# Altium footprint library MCB.PcbLib: 31 footprints (part 2 of 2)
Each footprint in its own frame and in the unit in brackets; x right, y up, seen from the top. Pads: shape width x height; smd on the part's side, far side on the other; paste and mask are expansions set on the pad; w line width, h text height; cw(c..) or ccw(c..) is an arc to the next point about the centre after c.
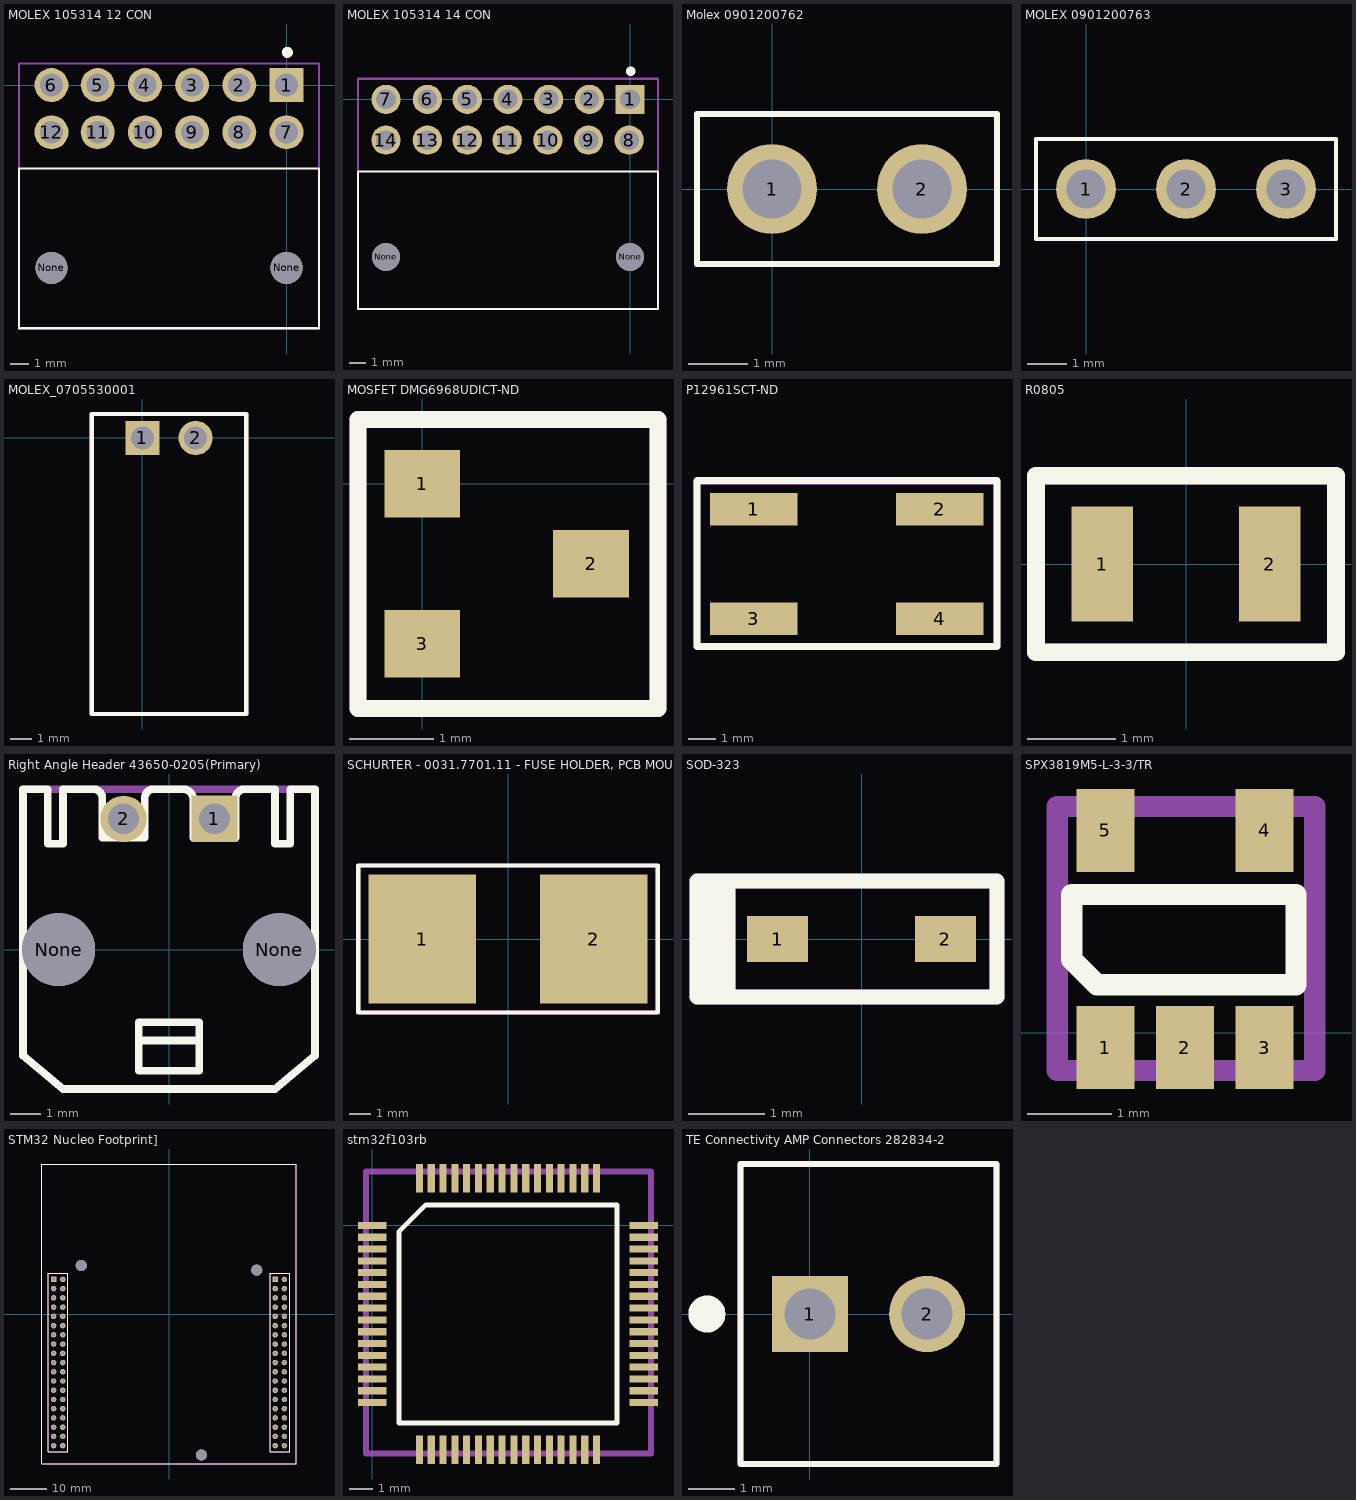
[diagram p1: the footprints below, top view; thin cyan lines are the x and y axes]

## MOLEX 105314 12 CON [mm]
pads (14):
  rect 1.8x1.8 hole 1.2: 1(0,0)
  round 1.8 hole 1.2: 2(-2.5,0) 3(-5,0) 4(-7.5,0) 5(-10,0) 6(-12.45,0) 7(0,-2.5) 8(-2.5,-2.5) 9(-5,-2.5) 10(-7.5,-2.5) 11(-10,-2.5) 12(-12.45,-2.5)
  round 1.7 hole 1.7 unplated: None(-12.45,-9.68) None(0,-9.68)
Top Overlay:
  circle w0.3: c0.047,1.73 r0.14
  lines w0.127: -14.17,-12.88 -14.17,-4.42 1.72,-4.42 1.72,-12.88 -14.17,-12.88
Mechanical 5:
  lines w0.127: -14.17,-12.878 1.72,-12.878 1.72,1.143 -14.17,1.143 -14.17,-12.878
  text "'.Designator'" at -8.636,-8.89 h0.71
3D body "MOLEX 105314 11 12 CON.stp": height 9.15, standoff -3.19, extent -14.193,-14.314 1.747,0.344

## MOLEX 105314 14 CON [mm]
pads (16):
  rect 1.8x1.8 hole 1.2: 1(0,0)
  round 1.8 hole 1.2: 2(-2.5,0) 3(-5,0) 4(-7.5,0) 5(-10,0) 6(-12.45,0) 7(-14.992,0) 8(-0.05,-2.5) 9(-2.55,-2.5) 10(-5.05,-2.5) 11(-7.55,-2.5) 12(-10,-2.5) 13(-12.45,-2.5) 14(-14.992,-2.5)
  round 1.7 hole 1.7 unplated: None(-14.992,-9.68) None(0,-9.68)
Top Overlay:
  circle w0.3: c0.047,1.73 r0.14
  lines w0.127: -16.712,-12.88 -16.712,-4.42 -15.494,-4.42 1.72,-4.42 1.72,-12.88 -16.712,-12.88
Mechanical 5:
  lines w0.127: -16.712,-12.878 1.72,-12.878 1.72,1.27 -9.804,1.27 -16.712,1.27 -16.712,-12.878
  text "'.Designator'" at -11.303,-8.763 h0.71
3D body "MOLEX 105314 11 14 CON.stp": height 9.15, standoff -3.19, extent -16.713,-14.314 1.727,0.344

## Molex 0901200762 [mil]
pads (2):
  round 60 hole 39.37: 1(0,0) 2(100,0)
Top Overlay:
  lines w3.94: 45,50 150,50 150,-50 -50,-50 -50,50 50,50
Mechanical 5:
  lines w3.94: 45,50 150,50 150,-50 -50,-50 -50,50 50,50
  text "'.Designator'" at -39,-10 h19.68
3D body "Molex 901200762.stp": height 364.67, standoff -112.37, extent -50,-49.21 150,49.21

## MOLEX 0901200763 [mil]
pads (3):
  round 60 hole 39.37: 1(0,0) 2(100,0) 3(200,0)
Top Overlay:
  lines w3.94: 45,50 250,50 250,-50 -50,-50 -50,50 50,50
Mechanical 5:
  lines w3.94: 45,50 250,50 250,-50 -50,-50 -50,50 50,50
  text "'.Designator'" at -35,-10 h28
3D body "901200763.stp": height 364.67, standoff -112.38, extent -50,-49.21 250,49.21

## MOLEX_0705530001 [mm]
pads (2):
  rect 1.635x1.635 hole 1.09: 1(0,0)
  round 1.635 hole 1.09: 2(2.54,0)
Top Overlay:
  lines w0.2: -2.415,-13.173 -0.573,-13.173 3.113,-13.173 4.955,-13.173 4.955,1.143 -2.415,1.143 -2.415,-13.081
Mechanical 5:
  lines w0.2: -2.415,-13.173 -0.573,-13.173 3.113,-13.173 4.955,-13.173 4.955,1.143 -2.415,1.143 -2.415,-13.081
  text "'.Designator'" at -2.54,-5.715 h0.7
3D body "705530001.stp": height 6.62, standoff -3.67, extent -2.413,-12.89 4.953,0.698

## MOSFET DMG6968UDICT-ND [mm]
pads (3):
  rect 0.9x0.8 smd: 1(0,0) 2(2,-0.95) 3(0,-1.9)
Top Overlay:
  lines w0.2: -0.762,-2.667 -0.762,0.762 2.794,0.762 2.794,-2.667 -0.762,-2.667
Mechanical 5:
  lines w0.2: -0.762,-2.667 -0.762,0.762 2.794,0.762 2.794,-2.667 -0.762,-2.667
  text "'.Designator'" at -0.508,-1.27 h0.5
3D body "SOT23-3.stp": height 1.2, standoff 0.02, extent -0.402,-2.44 2.434,0.56

## P12961SCT-ND [mm] "SWITCH TACTILE SPST-NO 0.02A 15V"
pads (4):
  rect 3.2x1.2 smd: 1(-112.275,140) 2(-105.475,140) 3(-112.275,136) 4(-105.475,136)
Top Overlay:
  lines w0.254: -114.35,134.975 -114.35,141.05 -103.375,141.05 -103.375,134.975 -114.35,134.975
Mechanical 5:
  lines w0.254: -114.35,134.975 -114.35,141.025 -103.375,141.025 -103.375,134.975 -114.35,134.975
  text "'.Designator'" at -112.4,137.725 h0.6
3D body "evqq2-bfkpuy-03w_.step": height 3.11, standoff 0.01, extent -112.175,135.1 -105.575,141.1
3D body: height 2.54, standoff -2.54, extent -108.9,138.375 -108.9,138.375

## R0805 [mm]
pads (2):
  rect 0.7x1.3 smd: 1(-0.95,0) 2(0.95,0)
Top Overlay:
  lines w0.2: -1.7,-1 1.7,-1 1.7,1 -1.7,1 -1.7,-1
Mechanical 5:
  lines w0.2: -1.7,-1 -1.7,1 1.7,1 1.7,-1 -1.7,-1
  text "'.Designator'" at -1.499,-0.127 h0.3
3D body "RESC-0805.stp": height 0.6, standoff 0, extent -1.05,-0.675 1.05,0.675

## Right Angle Header 43650-0205(Primary) [mm]
pads (4):
  rect 1.53x1.53 hole 1.02: 1(1.5,4.32)
  round 1.53 hole 1.02: 2(-1.5,4.32)
  round 2.413 hole 2.413 unplated: None(-3.645,0) None(3.645,0)
Top Overlay:
  lines w0.254: 0.499,5.3 cw(c0.45,4.95) 0.8,4.999 ; 0.5,5.3 -0.5,5.3 ccw(c-0.5,5) -0.8,5 -0.8,3.7 -2.2,3.7 -2.2,5 ccw(c-2.5,5) -2.5,5.3 -3.5,5.3 -3.5,3.5 -4,3.5 -4,5.3 -4.82,5.3 -4.82,-3.5 -3.5,-4.6 3.5,-4.6 4.82,-3.5 4.82,5.3 4,5.3 4,3.5 3.5,3.5 3.5,5.3 2.5,5.3 ccw(c2.5,5) 2.2,5 2.2,3.7 0.8,3.7 0.8,5 ; -1,-3 -1,-4 1,-4 1,-3 ; -1,-3 -1,-2.4 1,-2.4 1,-3 ; -1,-3 1,-3
Mechanical 5:
  lines w0.254: -4.82,-3.5 -3.5,-4.6 3.5,-4.6 4.82,-3.5 4.82,5.3 4,5.3 3.5,5.3 1.9,5.3 0.5,5.3 -1.1,5.3 -2.5,5.3 -3.5,5.3 -4,5.3 -4.82,5.3 -4.82,-3.5
  text "'.Designator'" at -3.5,1.524 h0.71
3D body "Right Angle Header 436500205.stp": height 5.58, standoff -3.21, extent -4.825,-4.594 4.825,5.306

## SCHURTER - 0031.7701.11 - FUSE HOLDER, PCB MOUNT [mm]
pads (2):
  rect 5x6 smd: 1(-4,0) 2(4,0)
Top Overlay:
  lines w0.2: -6.985,-3.429 6.985,-3.429 6.985,3.429 -6.985,3.429 -6.985,-3.429
Mechanical 5:
  lines w0.2: -6.985,-3.429 6.985,-3.429 6.985,3.429 -6.985,3.429 -6.985,1.714 -6.985,-1.714 -6.985,-3.429
  text "'.Designator'" at -0.635,0.254 h0.69
3D body: height 1.1, standoff 0, extent 0,0 0,0
3D body "FUSE HLDR CARTRIDGE 125V 5A SMD.STEP": height 6.01, standoff 0.01, extent -6.04,-2.6 6.04,2.6

## SOD-323 [mm] "SOD, 2-Leads, Body 1.7x1.25mm"
height 1.062
pads (2):
  rect 0.8x0.6 smd: 1(-1.1,0) 2(1.1,0)
Top Overlay:
  rectangle: -2.159,-0.762 -1.651,0.762
  lines w0.2: -2.159,-0.762 -2.159,0.762 1.778,0.762 1.778,-0.762 -2.159,-0.762
Mechanical 5:
  rectangle: -2.159,-0.762 -1.651,0.762
  lines w0.2: -2.159,-0.762 1.778,-0.762 1.778,0.762 -2.159,0.762 -2.159,-0.762
  text "'.Designator'" at -1.524,-0.381 h0.5
3D body "SOD-323.STEP": height 1.1, standoff 0, extent -1.3,-0.675 1.3,0.675

## SPX3819M5-L-3-3/TR [mm] "IC REG LINEAR 3.3V 500MA SOT23-5"
pads (5):
  rect 0.69x0.99 smd: 1(2.775,-0.175) 2(3.725,-0.175) 3(4.675,-0.175) 4(4.675,2.415) 5(2.775,2.415)
Top Overlay:
  lines w0.254: 2.375,0.875 2.675,0.575 5.05,0.575 5.05,1.65 2.375,1.65 2.375,0.875
Mechanical 5:
  lines w0.254: 2.2,-0.45 2.2,2.7 5.275,2.7 5.275,-0.45 2.2,-0.45
  text "'.Designator'" at 2.575,1.1 h0.2

## STM32 Nucleo Footprint] [mm]
pads (79):
  rect 1.508x1.508 hole 1: 1L(-31.75,9.51) 1R(29.21,9.51)
  round 1.508 hole 1: 2L(-29.21,9.51) 2R(31.75,9.51) 3L(-31.75,6.97) 3R(29.21,6.97) 4L(-29.21,6.97) 4R(31.75,6.97) 5L(-31.75,4.43) 5R(29.21,4.43) 6L(-29.21,4.43) 6R(31.75,4.43) 7L(-31.75,1.89) 7R(29.21,1.89) 8L(-29.21,1.89) 8R(31.75,1.89) 9L(-31.75,-0.65) 9R(29.21,-0.65) 10L(-29.21,-0.65) 10R(31.75,-0.65) 11L(-31.75,-3.19) 11R(29.21,-3.19) 12L(-29.21,-3.19) 12R(31.75,-3.19) 13L(-31.75,-5.73) 13R(29.21,-5.73) 14L(-29.21,-5.73) 14R(31.75,-5.73) 15L(-31.75,-8.27) 15R(29.21,-8.27) 16L(-29.21,-8.27) 16R(31.75,-8.27) 17L(-31.75,-10.81) 17R(29.21,-10.81) 18L(-29.21,-10.81) 18R(31.75,-10.81) 19L(-31.75,-13.35) 19R(29.21,-13.35) 20L(-29.21,-13.35) 20R(31.75,-13.35) 21L(-31.75,-15.89) 21R(29.21,-15.89) 22L(-29.21,-15.89) 22R(31.75,-15.89) 23L(-31.75,-18.43) 23R(29.21,-18.43) 24L(-29.21,-18.43) 24R(31.75,-18.43) 25L(-31.75,-20.97) 25R(29.21,-20.97) 26L(-29.21,-20.97) 26R(31.75,-20.97) 27L(-31.75,-23.51) 27R(29.21,-23.51) 28L(-29.21,-23.51) 28R(31.75,-23.51) 29L(-31.75,-26.05) 29R(29.21,-26.05) 30L(-29.21,-26.05) 30R(31.75,-26.05) 31L(-31.75,-28.59) 31R(29.21,-28.59) 32L(-29.21,-28.59) 32R(31.75,-28.59) 33L(-31.75,-31.13) 33R(29.21,-31.13) 34L(-29.21,-31.13) 34R(31.75,-31.13) 35L(-31.75,-33.67) 35R(29.21,-33.67) 36L(-29.21,-33.67) 36R(31.75,-33.67) 37L(-31.75,-36.21) 37R(29.21,-36.21) 38L(-29.21,-36.21) 38R(31.75,-36.21)
  round 3.05 hole 3.05 unplated: None(-24.13,13.32) None(8.89,-38.75) None(24.13,12.05)
Top Overlay:
  lines w0.127: -35,-41.25 -35,41.25 35,41.25 35,-41.25 -35,-41.25
  lines w0.152: -33.147,-37.846 -27.813,-37.846 -27.813,11.176 -33.147,11.176 -33.147,-37.846 ; 27.813,-37.846 33.147,-37.846 33.147,11.176 27.813,11.176 27.813,-37.846
Mechanical 5:
  lines w0.127: -35,-41.25 35,-41.25 35,41.25 -35,41.25 -35,-41.25
  lines w0.152: -33.147,-37.846 -33.147,11.176 -27.813,11.176 -27.813,-37.846 -33.147,-37.846 ; 27.813,-37.846 33.147,-37.846 33.147,11.176 27.813,11.176 27.813,-37.846
  text "J7B" at 28.321,-12.827 h1.52
  text "J7A" at -32.512,-12.446 h1.52
3D body "ESQ-119-24-T-D.stp": height 13.35, standoff -9.89, extent 27.94,-37.719 33.02,11.049
3D body "ESQ-119-24-T-D.stp": height 13.35, standoff -9.89, extent -33.02,-37.719 -27.94,11.049

## stm32f103rb [mm]
pads (64):
  rect 1.2x0.3 smd: 1(0,0) 2(0,-0.5) 3(0,-1) 4(0,-1.5) 5(0,-2) 6(0,-2.5) 7(0,-3) 8(0,-3.5) 9(0,-4) 10(0,-4.5) 11(0,-5) 12(0,-5.5) 13(0,-6) 14(0,-6.5) 15(0,-7) 16(0,-7.5) 33(11.5,-7.5) 34(11.5,-7) 35(11.5,-6.5) 36(11.5,-6) 37(11.5,-5.5) 38(11.5,-5) 39(11.5,-4.5) 40(11.5,-4) 41(11.5,-3.5) 42(11.5,-3) 43(11.5,-2.5) 44(11.5,-2) 45(11.5,-1.5) 46(11.5,-1) 47(11.5,-0.5) 48(11.5,0)
  rect 0.3x1.2 smd: 17(2,-9.5) 18(2.5,-9.5) 19(3,-9.5) 20(3.5,-9.5) 21(4,-9.5) 22(4.5,-9.5) 23(5,-9.5) 24(5.5,-9.5) 25(6,-9.5) 26(6.5,-9.5) 27(7,-9.5) 28(7.5,-9.5) 29(8,-9.5) 30(8.5,-9.5) 31(9,-9.5) 32(9.5,-9.5) 49(9.5,2) 50(9,2) 51(8.5,2) 52(8,2) 53(7.5,2) 54(7,2) 55(6.5,2) 56(6,2) 57(5.5,2) 58(5,2) 59(4.5,2) 60(4,2) 61(3.5,2) 62(3,2) 63(2.5,2) 64(2,2)
Top Overlay:
  lines w0.2: 1.135,-8.365 10.365,-8.365 10.365,0.865 2.27,0.865 1.135,-0.27 1.135,-8.365
Mechanical 5:
  lines w0.254: -0.254,-9.652 -0.254,2.286 11.811,2.286 11.811,-9.652 -0.254,-9.652
  text "'.Designator'" at 1.397,-4.318 h0.76
Mechanical 29:
  text "'.Designator'" at 1.4,-4.7 h0.7
3D body "STM32 LQFP64.step": height 1.6, standoff 0, extent -0.2,-9.7 11.8,2.3

## TE Connectivity AMP Connectors 282834-2 [mm] "TERM BLK 2P SIDE ENT 2.54MM PCB"
pads (2):
  rect 1.65x1.65 hole 1.1: 1(0,0)
  round 1.65 hole 1.1: 2(2.54,0)
Top Overlay:
  circle w0.4: c-2.232,0 r0.2
  lines w0.127: -1.5,-3.25 -1.5,3.25 4.04,3.25 4.04,-3.25 -1.5,-3.25
Mechanical 5:
  lines w0.127: -1.5,-3.25 4.04,-3.25 4.04,3.25 -1.5,3.25 -1.5,-3.25
  text "'.Designator'" at -0.889,1.143 h0.5
3D body "TD Connectivity 28234-2.stp": height 10, standoff -3.4, extent -1.476,-3.302 4.065,3.198